# EAGLE library part MICROPHONE (library 00_drich)
datasheet <http://www.invensense.com/download-pdf/ics-43434-datasheet/>
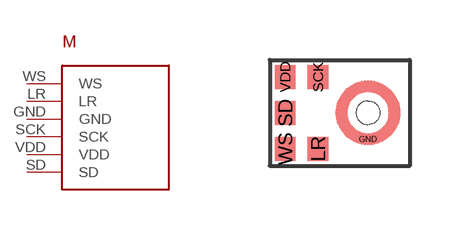
[diagram p6: symbol with the pads of ICS-43434; footprint ICS-43434]

Designator prefix M

## MICROPHONE (MPN: ICS-43434; POPULATE: 1)  [ICS-43434]
GND  GND
LR  LR
SCK  SCK
SD  SD
VDD  VDD
WS  WS

## Footprint ICS-43434 (pad centres in mm)
smd 0.25 x 0.25: GND 2.074,-0.657
smd 0.522 x 0.6: LR 0.822,-0.9; SCK 0.822,0.9; SD 0,0; VDD 0,0.9; WS 0,-0.9